# Altium integrated library TI Power Management Hot Swap.IntLib: 76 symbols (part 1 of 5)
Pins are listed as number, name and electrical type; pins without a type are passive.

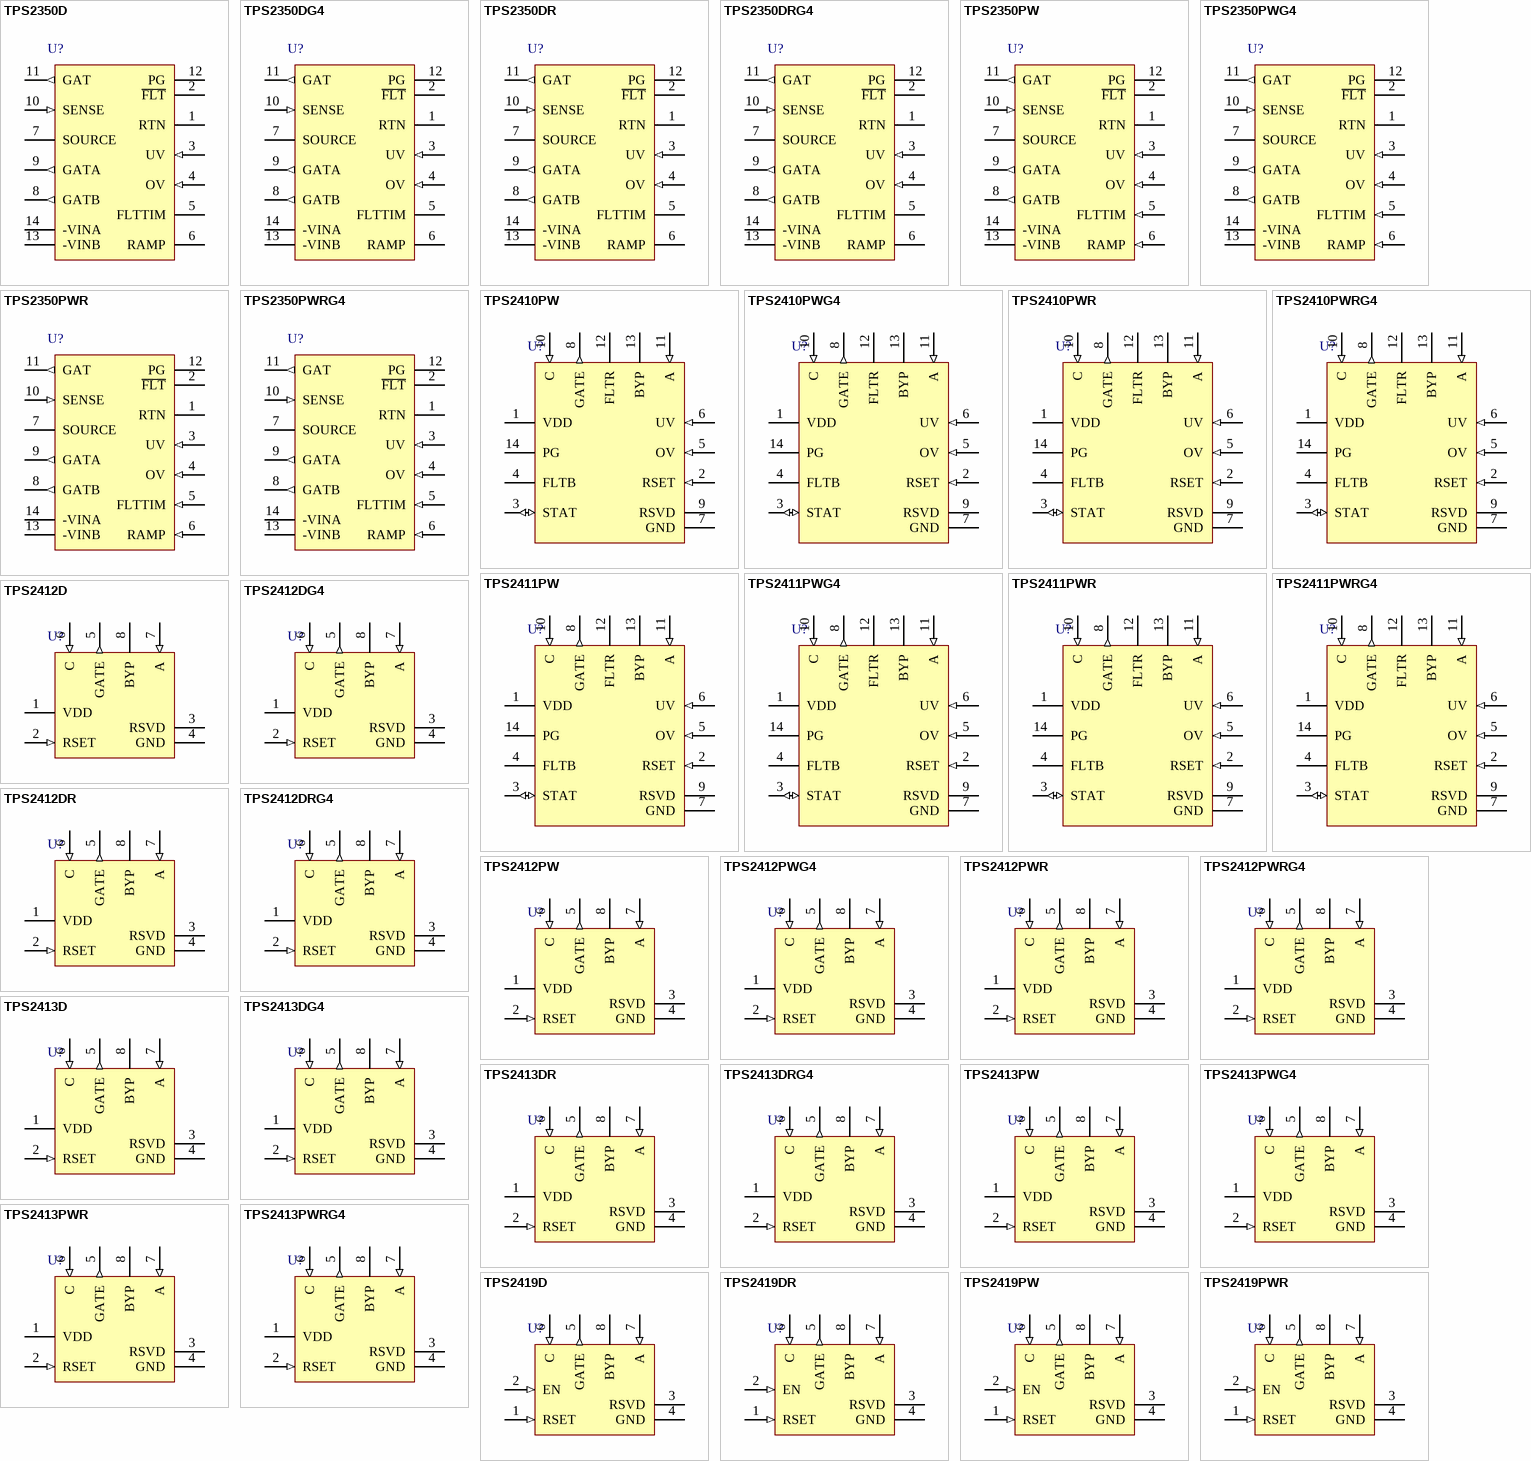
[diagram p0: symbols TPS2350D to TPS2419PWR]

## TPS2350D
designator U?
Hot Swap Power Manager for Redundant -48 V Supply, -80 to -12 V, -40 to 85 degC, 14-pin SOIC (D), Green (RoHS & no Sb/Br); Manufacturer: Texas Instruments; PartNumber: TPS2350D; No. of Outputs: 1; DatasheetVersion: SLUS574C; PackageVersion: revM, Jun-2011; PackageReference: D14; PackageDescription: 14-Pin Plastic Small Outline Integrated Circuit, 8.7 x 3.9 mm, Pitch 1.27 mm Pitch; Supplier 1: Digi-Key; Supplier Part Number 1: 296-16959-5-ND; Supplier 2: Newark; Supplier Part Number 2: 01J0966; Supplier 3: Mouser; Supplier Part Number 3: 595-TPS2350D; Eco-Plan: Green (RoHS & no Sb/Br); Vin(Max)(V): -12; Vin(Min)(V): -80; Mounting Technology: Surface Mount; Code_JEDEC: MS-012AB; ComponentLink1Description: Datasheet; ComponentLink1URL: http://www.ti.com/general/docs/lit/getliterature.tsp?genericPartNumber=TPS2350&fileType=pdf
footprint D14_N (SOIC, 14-Leads, Body 8.7x3.9mm, Pitch 1.27mm, IPC Medium Density)
footprint D14_L (SOIC, 14-Leads, Body 8.7x3.9mm, Pitch 1.27mm, IPC High Density)
footprint D14_M (SOIC, 14-Leads, Body 8.7x3.9mm, Pitch 1.27mm, IPC Low Density)
pins: 1 RTN (power) "Supply return (ground).", 2 ~{FLT} (oc) "Open-drain, active-low indication that the part is in fault", 3 UV (in) "Under voltage sense input.", 4 OV (in) "Over voltage sense input.", 5 FLTTIM "Connection for user programming of the fault timeout period", 6 RAMP "Programming input for setting the inrush current slew rate.", 7 SOURCE (power) "Negative current sense input", 8 GATB (out) "Gate drive for external N-channel FET that selects -VINB.", 9 GATA (out) "Gate drive for external N-channel FET that selects -VINA.", 10 SENSE (in) "Positive current sense input.", 11 GAT (out) "Gate drive for external N-channel FET that ramps load current and disconnects in the event of a fault.", 12 PG (oc) "Open-drain, active-high indication that the power FET is fully enhanced.", 13 -VINB (power) "Negative supply input B.", 14 -VINA (power) "Negative supply input A."

## TPS2350DG4
designator U?
Hot Swap Power Manager for Redundant -48 V Supply, -80 to -12 V, -40 to 85 degC, 14-pin SOIC (D), Green (RoHS & no Sb/Br); Manufacturer: Texas Instruments; PartNumber: TPS2350DG4; No. of Outputs: 1; DatasheetVersion: SLUS574C; PackageVersion: revM, Jun-2011; PackageReference: D14; PackageDescription: 14-Pin Plastic Small Outline Integrated Circuit, 8.7 x 3.9 mm, Pitch 1.27 mm Pitch; Supplier 1: Digi-Key; Supplier Part Number 1: TPS2350DG4-ND; Supplier 2: Newark; Supplier Part Number 2: 61K1880; Supplier 3: Mouser; Supplier Part Number 3: 595-TPS2350DG4; Eco-Plan: Green (RoHS & no Sb/Br); Vin(Max)(V): -12; Vin(Min)(V): -80; Mounting Technology: Surface Mount; Code_JEDEC: MS-012AB; ComponentLink1Description: Datasheet; ComponentLink1URL: http://www.ti.com/general/docs/lit/getliterature.tsp?genericPartNumber=TPS2350&fileType=pdf
footprint D14_N (SOIC, 14-Leads, Body 8.7x3.9mm, Pitch 1.27mm, IPC Medium Density)
footprint D14_L (SOIC, 14-Leads, Body 8.7x3.9mm, Pitch 1.27mm, IPC High Density)
footprint D14_M (SOIC, 14-Leads, Body 8.7x3.9mm, Pitch 1.27mm, IPC Low Density)
pins: 1 RTN (power) "Supply return (ground).", 2 ~{FLT} (oc) "Open-drain, active-low indication that the part is in fault", 3 UV (in) "Under voltage sense input.", 4 OV (in) "Over voltage sense input.", 5 FLTTIM "Connection for user programming of the fault timeout period", 6 RAMP "Programming input for setting the inrush current slew rate.", 7 SOURCE (power) "Negative current sense input", 8 GATB (out) "Gate drive for external N-channel FET that selects -VINB.", 9 GATA (out) "Gate drive for external N-channel FET that selects -VINA.", 10 SENSE (in) "Positive current sense input.", 11 GAT (out) "Gate drive for external N-channel FET that ramps load current and disconnects in the event of a fault.", 12 PG (oc) "Open-drain, active-high indication that the power FET is fully enhanced.", 13 -VINB (power) "Negative supply input B.", 14 -VINA (power) "Negative supply input A."

## TPS2350DR
designator U?
Hot Swap Power Manager for Redundant -48 V Supply, -80 to -12 V, -40 to 85 degC, 14-pin SOIC (D), Green (RoHS & no Sb/Br); Manufacturer: Texas Instruments; PartNumber: TPS2350DR; No. of Outputs: 1; DatasheetVersion: SLUS574C; PackageVersion: revM, Jun-2011; PackageReference: D14; PackageDescription: 14-Pin Plastic Small Outline Integrated Circuit, 8.7 x 3.9 mm, Pitch 1.27 mm Pitch; Supplier 1: Digi-Key; Supplier Part Number 1: TPS2350DR-ND; Supplier 2: Newark; Supplier Part Number 2: 01J0967; Supplier 3: Mouser; Supplier Part Number 3: 595-TPS2350DR; Eco-Plan: Green (RoHS & no Sb/Br); Vin(Max)(V): -12; Vin(Min)(V): -80; Mounting Technology: Surface Mount; Code_JEDEC: MS-012AB; ComponentLink1Description: Datasheet; ComponentLink1URL: http://www.ti.com/general/docs/lit/getliterature.tsp?genericPartNumber=TPS2350&fileType=pdf
footprint D14_N (SOIC, 14-Leads, Body 8.7x3.9mm, Pitch 1.27mm, IPC Medium Density)
footprint D14_L (SOIC, 14-Leads, Body 8.7x3.9mm, Pitch 1.27mm, IPC High Density)
footprint D14_M (SOIC, 14-Leads, Body 8.7x3.9mm, Pitch 1.27mm, IPC Low Density)
pins: 1 RTN (power) "Supply return (ground).", 2 ~{FLT} (oc) "Open-drain, active-low indication that the part is in fault", 3 UV (in) "Under voltage sense input.", 4 OV (in) "Over voltage sense input.", 5 FLTTIM "Connection for user programming of the fault timeout period", 6 RAMP "Programming input for setting the inrush current slew rate.", 7 SOURCE (power) "Negative current sense input", 8 GATB (out) "Gate drive for external N-channel FET that selects -VINB.", 9 GATA (out) "Gate drive for external N-channel FET that selects -VINA.", 10 SENSE (in) "Positive current sense input.", 11 GAT (out) "Gate drive for external N-channel FET that ramps load current and disconnects in the event of a fault.", 12 PG (oc) "Open-drain, active-high indication that the power FET is fully enhanced.", 13 -VINB (power) "Negative supply input B.", 14 -VINA (power) "Negative supply input A."

## TPS2350DRG4
designator U?
Hot Swap Power Manager for Redundant -48 V Supply, -80 to -12 V, -40 to 85 degC, 14-pin SOIC (D), Green (RoHS & no Sb/Br); Manufacturer: Texas Instruments; PartNumber: TPS2350DRG4; No. of Outputs: 1; DatasheetVersion: SLUS574C; PackageVersion: revM, Jun-2011; PackageReference: D14; PackageDescription: 14-Pin Plastic Small Outline Integrated Circuit, 8.7 x 3.9 mm, Pitch 1.27 mm Pitch; Supplier 1: Digi-Key; Supplier Part Number 1: TPS2350DRG4-ND; Supplier 2: Newark; Supplier Part Number 2: 54K1586; Supplier 3: Mouser; Supplier Part Number 3: 595-TPS2350DRG4; Eco-Plan: Green (RoHS & no Sb/Br); Vin(Max)(V): -12; Vin(Min)(V): -80; Mounting Technology: Surface Mount; Code_JEDEC: MS-012AB; ComponentLink1Description: Datasheet; ComponentLink1URL: http://www.ti.com/general/docs/lit/getliterature.tsp?genericPartNumber=TPS2350&fileType=pdf
footprint D14_N (SOIC, 14-Leads, Body 8.7x3.9mm, Pitch 1.27mm, IPC Medium Density)
footprint D14_L (SOIC, 14-Leads, Body 8.7x3.9mm, Pitch 1.27mm, IPC High Density)
footprint D14_M (SOIC, 14-Leads, Body 8.7x3.9mm, Pitch 1.27mm, IPC Low Density)
pins: 1 RTN (power) "Supply return (ground).", 2 ~{FLT} (oc) "Open-drain, active-low indication that the part is in fault", 3 UV (in) "Under voltage sense input.", 4 OV (in) "Over voltage sense input.", 5 FLTTIM "Connection for user programming of the fault timeout period", 6 RAMP "Programming input for setting the inrush current slew rate.", 7 SOURCE (power) "Negative current sense input", 8 GATB (out) "Gate drive for external N-channel FET that selects -VINB.", 9 GATA (out) "Gate drive for external N-channel FET that selects -VINA.", 10 SENSE (in) "Positive current sense input.", 11 GAT (out) "Gate drive for external N-channel FET that ramps load current and disconnects in the event of a fault.", 12 PG (oc) "Open-drain, active-high indication that the power FET is fully enhanced.", 13 -VINB (power) "Negative supply input B.", 14 -VINA (power) "Negative supply input A."

## TPS2350PW
designator U?
Hot Swap Power Manager for Redundant -48 V Supply, -80 to -12 V, -40 to 85 degC, 14-pin TSSOP (PW), Green (RoHS & no Sb/Br); Manufacturer: Texas Instruments; PartNumber: TPS2350PW; No. of Outputs: 1; DatasheetVersion: SLUS574C; PackageVersion: revG, Feb-2011; PackageReference: PW14; PackageDescription: 14-Pin Thin Small Outline Package 0.65 mm Pitch; Supplier 1: Digi-Key; Supplier Part Number 1: 296-18941-5-ND; Supplier 2: Newark; Supplier Part Number 2: 82H5872; Supplier 3: Mouser; Supplier Part Number 3: 595-TPS2350PW; Eco-Plan: Green (RoHS & no Sb/Br); Vin(Max)(V): -12; Vin(Min)(V): -80; Mounting Technology: Surface Mount; Code_JEDEC: MO-153; ComponentLink1Description: Datasheet; ComponentLink1URL: http://www.ti.com/general/docs/lit/getliterature.tsp?genericPartNumber=TPS2350&fileType=pdf
footprint PW14_N (TSOP, 14-Leads, Body 5x4.4mm, Pitch 0.65mm, IPC Medium Density)
footprint PW14_L (TSOP, 14-Leads, Body 5x4.4mm, Pitch 0.65mm, IPC High Density)
footprint PW14_M (TSOP, 14-Leads, Body 5x4.4mm, Pitch 0.65mm, IPC Low Density)
pins: 1 RTN (power) "Supply return (ground).", 2 ~{FLT} (oc) "Open-drain, active-low indication that the part is in fault.", 3 UV (in) "Under voltage sense input.", 4 OV (in) "Over voltage sense input.", 5 FLTTIM (in) "Connection for user programming of the fault timeout period.", 6 RAMP (in) "Programming input for setting the inrush current slew rate.", 7 SOURCE (power) "Negative current sense input.", 8 GATB (out) "Gate drive for external N-channel FET that selects -VINB.", 9 GATA (out) "Gate drive for external N-channel FET that selects -VINA.", 10 SENSE (in) "Positive current sense input.", 11 GAT (out) "Gate drive for external N-channel FET that ramps load current and disconnects in the event of a fault.", 12 PG (oc) "Open-drain, active-high indication that the power FET is fully enhanced.", 13 -VINB (power) "Negative supply input B.", 14 -VINA (power) "Negative supply input A."

## TPS2350PWG4
designator U?
Hot Swap Power Manager for Redundant -48 V Supply, -80 to -12 V, -40 to 85 degC, 14-pin TSSOP (PW), Green (RoHS & no Sb/Br); Manufacturer: Texas Instruments; PartNumber: TPS2350PWG4; No. of Outputs: 1; DatasheetVersion: SLUS574C; PackageVersion: revG, Feb-2011; PackageReference: PW14; PackageDescription: 14-Pin Thin Small Outline Package 0.65 mm Pitch; Supplier 1: Digi-Key; Supplier Part Number 1: TPS2350PWG4-ND; Supplier 2: Newark; Supplier Part Number 2: 58K6908; Supplier 3: Mouser; Supplier Part Number 3: 595-TPS2350PWG4; Eco-Plan: Green (RoHS & no Sb/Br); Vin(Max)(V): -12; Vin(Min)(V): -80; Mounting Technology: Surface Mount; Code_JEDEC: MO-153; ComponentLink1Description: Datasheet; ComponentLink1URL: http://www.ti.com/general/docs/lit/getliterature.tsp?genericPartNumber=TPS2350&fileType=pdf
footprint PW14_N (TSOP, 14-Leads, Body 5x4.4mm, Pitch 0.65mm, IPC Medium Density)
footprint PW14_L (TSOP, 14-Leads, Body 5x4.4mm, Pitch 0.65mm, IPC High Density)
footprint PW14_M (TSOP, 14-Leads, Body 5x4.4mm, Pitch 0.65mm, IPC Low Density)
pins: 1 RTN (power) "Supply return (ground).", 2 ~{FLT} (oc) "Open-drain, active-low indication that the part is in fault.", 3 UV (in) "Under voltage sense input.", 4 OV (in) "Over voltage sense input.", 5 FLTTIM (in) "Connection for user programming of the fault timeout period.", 6 RAMP (in) "Programming input for setting the inrush current slew rate.", 7 SOURCE (power) "Negative current sense input.", 8 GATB (out) "Gate drive for external N-channel FET that selects -VINB.", 9 GATA (out) "Gate drive for external N-channel FET that selects -VINA.", 10 SENSE (in) "Positive current sense input.", 11 GAT (out) "Gate drive for external N-channel FET that ramps load current and disconnects in the event of a fault.", 12 PG (oc) "Open-drain, active-high indication that the power FET is fully enhanced.", 13 -VINB (power) "Negative supply input B.", 14 -VINA (power) "Negative supply input A."

## TPS2350PWR
designator U?
Hot Swap Power Manager for Redundant -48 V Supply, -80 to -12 V, -40 to 85 degC, 14-pin TSSOP (PW), Green (RoHS & no Sb/Br); Manufacturer: Texas Instruments; PartNumber: TPS2350PWR; No. of Outputs: 1; DatasheetVersion: SLUS574C; PackageVersion: revG, Feb-2011; PackageReference: PW14; PackageDescription: 14-Pin Thin Small Outline Package 0.65 mm Pitch; Supplier 1: Digi-Key; Supplier Part Number 1: TPS2350PWR-ND; Supplier 2: Newark; Supplier Part Number 2: 82H5873; Supplier 3: Mouser; Supplier Part Number 3: 595-TPS2350PWR; Eco-Plan: Green (RoHS & no Sb/Br); Vin(Max)(V): -12; Vin(Min)(V): -80; Mounting Technology: Surface Mount; Code_JEDEC: MO-153; ComponentLink1Description: Datasheet; ComponentLink1URL: http://www.ti.com/general/docs/lit/getliterature.tsp?genericPartNumber=TPS2350&fileType=pdf
footprint PW14_N (TSOP, 14-Leads, Body 5x4.4mm, Pitch 0.65mm, IPC Medium Density)
footprint PW14_L (TSOP, 14-Leads, Body 5x4.4mm, Pitch 0.65mm, IPC High Density)
footprint PW14_M (TSOP, 14-Leads, Body 5x4.4mm, Pitch 0.65mm, IPC Low Density)
pins: 1 RTN (power) "Supply return (ground).", 2 ~{FLT} (oc) "Open-drain, active-low indication that the part is in fault.", 3 UV (in) "Under voltage sense input.", 4 OV (in) "Over voltage sense input.", 5 FLTTIM (in) "Connection for user programming of the fault timeout period.", 6 RAMP (in) "Programming input for setting the inrush current slew rate.", 7 SOURCE (power) "Negative current sense input.", 8 GATB (out) "Gate drive for external N-channel FET that selects -VINB.", 9 GATA (out) "Gate drive for external N-channel FET that selects -VINA.", 10 SENSE (in) "Positive current sense input.", 11 GAT (out) "Gate drive for external N-channel FET that ramps load current and disconnects in the event of a fault.", 12 PG (oc) "Open-drain, active-high indication that the power FET is fully enhanced.", 13 -VINB (power) "Negative supply input B.", 14 -VINA (power) "Negative supply input A."

## TPS2350PWRG4
designator U?
Hot Swap Power Manager for Redundant -48 V Supply, -80 to -12 V, -40 to 85 degC, 14-pin TSSOP (PW), Green (RoHS & no Sb/Br); Manufacturer: Texas Instruments; PartNumber: TPS2350PWRG4; No. of Outputs: 1; DatasheetVersion: SLUS574C; PackageVersion: revG, Feb-2011; PackageReference: PW14; PackageDescription: 14-Pin Thin Small Outline Package 0.65 mm Pitch; Supplier 1: Digi-Key; Supplier Part Number 1: TPS2350PWRG4-ND; Supplier 2: Newark; Supplier Part Number 2: 70K5713; Supplier 3: Mouser; Supplier Part Number 3: 595-TPS2350PWRG4; Eco-Plan: Green (RoHS & no Sb/Br); Vin(Max)(V): -12; Vin(Min)(V): -80; Mounting Technology: Surface Mount; Code_JEDEC: MO-153; ComponentLink1Description: Datasheet; ComponentLink1URL: http://www.ti.com/general/docs/lit/getliterature.tsp?genericPartNumber=TPS2350&fileType=pdf
footprint PW14_N (TSOP, 14-Leads, Body 5x4.4mm, Pitch 0.65mm, IPC Medium Density)
footprint PW14_L (TSOP, 14-Leads, Body 5x4.4mm, Pitch 0.65mm, IPC High Density)
footprint PW14_M (TSOP, 14-Leads, Body 5x4.4mm, Pitch 0.65mm, IPC Low Density)
pins: 1 RTN (power) "Supply return (ground).", 2 ~{FLT} (oc) "Open-drain, active-low indication that the part is in fault.", 3 UV (in) "Under voltage sense input.", 4 OV (in) "Over voltage sense input.", 5 FLTTIM (in) "Connection for user programming of the fault timeout period.", 6 RAMP (in) "Programming input for setting the inrush current slew rate.", 7 SOURCE (power) "Negative current sense input.", 8 GATB (out) "Gate drive for external N-channel FET that selects -VINB.", 9 GATA (out) "Gate drive for external N-channel FET that selects -VINA.", 10 SENSE (in) "Positive current sense input.", 11 GAT (out) "Gate drive for external N-channel FET that ramps load current and disconnects in the event of a fault.", 12 PG (oc) "Open-drain, active-high indication that the power FET is fully enhanced.", 13 -VINB (power) "Negative supply input B.", 14 -VINA (power) "Negative supply input A."

## TPS2410PW
designator U?
N+1 and OR-ing Power Rail Controller, 0.8 to 16.5 V, -40 to 85 degC, 14-pin TSSOP (PW), Green (RoHS & no Sb/Br); Manufacturer: Texas Instruments; PartNumber: TPS2410PW; Enable (OV): Yes; Gate Control: linear; No. of Outputs: 1; Vin(Max)(V): 16.5; Vin(Min)(V): 0.8; DatasheetVersion: SLVS727C; PackageVersion: revG, Feb-2011; PackageReference: PW14; PackageDescription: 14-Pin Thin Small Outline Package 0.65 mm Pitch; Supplier 1: Digi-Key; Supplier Part Number 1: 296-21612-5-ND; Supplier 2: Farnell; Supplier Part Number 2: 1564949; Supplier 3: Newark; Supplier Part Number 3: 31M0444; Supplier 4: Mouser; Supplier Part Number 4: 595-TPS2410PW; Eco-Plan: Green (RoHS & no Sb/Br); Fault and Status: Yes; Input Filter: Yes; Under/Over Voltage Reporting: Yes; Mounting Technology: Surface Mount; Code_JEDEC: MO-153; ComponentLink1Description: Datasheet; ComponentLink1URL: http://www.ti.com/general/docs/lit/getliterature.tsp?genericPartNumber=TPS2410&fileType=pdf
footprint PW14_N (TSOP, 14-Leads, Body 5x4.4mm, Pitch 0.65mm, IPC Medium Density)
footprint PW14_L (TSOP, 14-Leads, Body 5x4.4mm, Pitch 0.65mm, IPC High Density)
footprint PW14_M (TSOP, 14-Leads, Body 5x4.4mm, Pitch 0.65mm, IPC Low Density)
pins: 1 VDD (power) "Input power for the gate drive charge pump and internal controls. VDD must be connected to a supply voltage >= 3 V.", 2 RSET (in) "Connect a resistor to ground to program the turn-off threshold. Leaving RSET open results in a slightly positive V(A-C) turn-off threshold.", 3 STAT (io) "STAT is a multifunction pin. A high output indicates that the MOSFET gate is being driven high. Overdriving STAT low while GATE is high shifts the fast-turnoff threshold negative. STAT has a weak pull-up to VDD.", 4 FLTB (oc) "Open drain fault output. Fault is active (low) for any of the following conditions: 1. Insufficient VDD 2. GATE should be high but is not. 3. The MOSFET should be ON but the forward voltage exceeds 0.4 V.", 5 OV (in) "OV is a voltage monitor that contributes to the PG output, and also causes the MOSFET to turn off if it is above the 0.6-V threshold. OV is programmable via an external resistor divider. An OV voltage above 0.6 V indicates a (See Datasheet)", 6 UV (in) "UV is a voltage monitor that contributes to the PG output. The UV input has a 0.6 V threshold and is programmable via an external resistor divider. A UV voltage above 0.6V indicates a bus voltage that is above its minimum (See Datasheet)", 7 GND (power) "Device ground.", 8 GATE (out) "Connect to the gate of the external MOSFET. Controls the MOSFET to emulate a low forward-voltage diode.", 9 RSVD (power) "This pin must be connected to GND.", 10 C (in) "Voltage sense input that connects to the simulated diode cathode. Connect to the MOSFET drain in the typical configuration.", 11 A (in) "Voltage sense input that connects to the simulated diode anode. A also serves as the reference for the charge-pump bias supply on BYP. Connect to the MOSFET source in the typical configuration.", 12 FLTR "A capacitor connected from FLTR to A filters the input to the fast comparator. Filtering allows the TPS2410 to ignore spurious transients on the A and C inputs. This pin may be left open to achieve the fastest response time.", 13 BYP (power) "Connect a storage capacitor from BYP to A to filter the gate drive supply voltage.", 14 PG (oc) "An open-drain Power Good indicator. PG is open if the UV input is above its threshold, the OV is below its threshold, and the internal UVLO is satisfied."

## TPS2410PWG4
designator U?
N+1 and OR-ing Power Rail Controller, 0.8 to 16.5 V, -40 to 85 degC, 14-pin TSSOP (PW), Green (RoHS & no Sb/Br); Manufacturer: Texas Instruments; PartNumber: TPS2410PWG4; Enable (OV): Yes; Gate Control: linear; No. of Outputs: 1; Vin(Max)(V): 16.5; Vin(Min)(V): 0.8; DatasheetVersion: SLVS727C; PackageVersion: revG, Feb-2011; PackageReference: PW14; PackageDescription: 14-Pin Thin Small Outline Package 0.65 mm Pitch; Supplier 1: Digi-Key; Supplier Part Number 1: TPS2410PWG4-ND; Supplier 2: Newark; Supplier Part Number 2: 41M5862; Supplier 3: Mouser; Supplier Part Number 3: 595-TPS2410PWG4; Eco-Plan: Green (RoHS & no Sb/Br); Fault and Status: Yes; Input Filter: Yes; Under/Over Voltage Reporting: Yes; Mounting Technology: Surface Mount; Code_JEDEC: MO-153; ComponentLink1Description: Datasheet; ComponentLink1URL: http://www.ti.com/general/docs/lit/getliterature.tsp?genericPartNumber=TPS2410&fileType=pdf
footprint PW14_N (TSOP, 14-Leads, Body 5x4.4mm, Pitch 0.65mm, IPC Medium Density)
footprint PW14_L (TSOP, 14-Leads, Body 5x4.4mm, Pitch 0.65mm, IPC High Density)
footprint PW14_M (TSOP, 14-Leads, Body 5x4.4mm, Pitch 0.65mm, IPC Low Density)
pins: 1 VDD (power) "Input power for the gate drive charge pump and internal controls. VDD must be connected to a supply voltage >= 3 V.", 2 RSET (in) "Connect a resistor to ground to program the turn-off threshold. Leaving RSET open results in a slightly positive V(A-C) turn-off threshold.", 3 STAT (io) "STAT is a multifunction pin. A high output indicates that the MOSFET gate is being driven high. Overdriving STAT low while GATE is high shifts the fast-turnoff threshold negative. STAT has a weak pull-up to VDD.", 4 FLTB (oc) "Open drain fault output. Fault is active (low) for any of the following conditions: 1. Insufficient VDD 2. GATE should be high but is not. 3. The MOSFET should be ON but the forward voltage exceeds 0.4 V.", 5 OV (in) "OV is a voltage monitor that contributes to the PG output, and also causes the MOSFET to turn off if it is above the 0.6-V threshold. OV is programmable via an external resistor divider. An OV voltage above 0.6 V indicates a (See Datasheet)", 6 UV (in) "UV is a voltage monitor that contributes to the PG output. The UV input has a 0.6 V threshold and is programmable via an external resistor divider. A UV voltage above 0.6V indicates a bus voltage that is above its minimum (See Datasheet)", 7 GND (power) "Device ground.", 8 GATE (out) "Connect to the gate of the external MOSFET. Controls the MOSFET to emulate a low forward-voltage diode.", 9 RSVD (power) "This pin must be connected to GND.", 10 C (in) "Voltage sense input that connects to the simulated diode cathode. Connect to the MOSFET drain in the typical configuration.", 11 A (in) "Voltage sense input that connects to the simulated diode anode. A also serves as the reference for the charge-pump bias supply on BYP. Connect to the MOSFET source in the typical configuration.", 12 FLTR "A capacitor connected from FLTR to A filters the input to the fast comparator. Filtering allows the TPS2410 to ignore spurious transients on the A and C inputs. This pin may be left open to achieve the fastest response time.", 13 BYP (power) "Connect a storage capacitor from BYP to A to filter the gate drive supply voltage.", 14 PG (oc) "An open-drain Power Good indicator. PG is open if the UV input is above its threshold, the OV is below its threshold, and the internal UVLO is satisfied."

## TPS2410PWR
designator U?
N+1 and OR-ing Power Rail Controller, 0.8 to 16.5 V, -40 to 85 degC, 14-pin TSSOP (PW), Green (RoHS & no Sb/Br); Manufacturer: Texas Instruments; PartNumber: TPS2410PWR; Enable (OV): Yes; Gate Control: linear; No. of Outputs: 1; Vin(Max)(V): 16.5; Vin(Min)(V): 0.8; DatasheetVersion: SLVS727C; PackageVersion: revG, Feb-2011; PackageReference: PW14; PackageDescription: 14-Pin Thin Small Outline Package 0.65 mm Pitch; Supplier 1: Digi-Key; Supplier Part Number 1: TPS2410PWR-ND; Supplier 2: Newark; Supplier Part Number 2: 31M0445; Supplier 3: Mouser; Supplier Part Number 3: 595-TPS2410PWR; Eco-Plan: Green (RoHS & no Sb/Br); Fault and Status: Yes; Input Filter: Yes; Under/Over Voltage Reporting: Yes; Mounting Technology: Surface Mount; Code_JEDEC: MO-153; ComponentLink1Description: Datasheet; ComponentLink1URL: http://www.ti.com/general/docs/lit/getliterature.tsp?genericPartNumber=TPS2410&fileType=pdf
footprint PW14_N (TSOP, 14-Leads, Body 5x4.4mm, Pitch 0.65mm, IPC Medium Density)
footprint PW14_L (TSOP, 14-Leads, Body 5x4.4mm, Pitch 0.65mm, IPC High Density)
footprint PW14_M (TSOP, 14-Leads, Body 5x4.4mm, Pitch 0.65mm, IPC Low Density)
pins: 1 VDD (power) "Input power for the gate drive charge pump and internal controls. VDD must be connected to a supply voltage >= 3 V.", 2 RSET (in) "Connect a resistor to ground to program the turn-off threshold. Leaving RSET open results in a slightly positive V(A-C) turn-off threshold.", 3 STAT (io) "STAT is a multifunction pin. A high output indicates that the MOSFET gate is being driven high. Overdriving STAT low while GATE is high shifts the fast-turnoff threshold negative. STAT has a weak pull-up to VDD.", 4 FLTB (oc) "Open drain fault output. Fault is active (low) for any of the following conditions: 1. Insufficient VDD 2. GATE should be high but is not. 3. The MOSFET should be ON but the forward voltage exceeds 0.4 V.", 5 OV (in) "OV is a voltage monitor that contributes to the PG output, and also causes the MOSFET to turn off if it is above the 0.6-V threshold. OV is programmable via an external resistor divider. An OV voltage above 0.6 V indicates a (See Datasheet)", 6 UV (in) "UV is a voltage monitor that contributes to the PG output. The UV input has a 0.6 V threshold and is programmable via an external resistor divider. A UV voltage above 0.6V indicates a bus voltage that is above its minimum (See Datasheet)", 7 GND (power) "Device ground.", 8 GATE (out) "Connect to the gate of the external MOSFET. Controls the MOSFET to emulate a low forward-voltage diode.", 9 RSVD (power) "This pin must be connected to GND.", 10 C (in) "Voltage sense input that connects to the simulated diode cathode. Connect to the MOSFET drain in the typical configuration.", 11 A (in) "Voltage sense input that connects to the simulated diode anode. A also serves as the reference for the charge-pump bias supply on BYP. Connect to the MOSFET source in the typical configuration.", 12 FLTR "A capacitor connected from FLTR to A filters the input to the fast comparator. Filtering allows the TPS2410 to ignore spurious transients on the A and C inputs. This pin may be left open to achieve the fastest response time.", 13 BYP (power) "Connect a storage capacitor from BYP to A to filter the gate drive supply voltage.", 14 PG (oc) "An open-drain Power Good indicator. PG is open if the UV input is above its threshold, the OV is below its threshold, and the internal UVLO is satisfied."

## TPS2410PWRG4
designator U?
N+1 and OR-ing Power Rail Controller, 0.8 to 16.5 V, -40 to 85 degC, 14-pin TSSOP (PW), Green (RoHS & no Sb/Br); Manufacturer: Texas Instruments; PartNumber: TPS2410PWRG4; Enable (OV): Yes; Gate Control: linear; No. of Outputs: 1; Vin(Max)(V): 16.5; Vin(Min)(V): 0.8; DatasheetVersion: SLVS727C; PackageVersion: revG, Feb-2011; PackageReference: PW14; PackageDescription: 14-Pin Thin Small Outline Package 0.65 mm Pitch; Supplier 1: Digi-Key; Supplier Part Number 1: TPS2410PWRG4-ND; Supplier 2: Newark; Supplier Part Number 2: 34M0147; Supplier 3: Mouser; Supplier Part Number 3: 595-TPS2410PWRG4; Eco-Plan: Green (RoHS & no Sb/Br); Fault and Status: Yes; Input Filter: Yes; Under/Over Voltage Reporting: Yes; Mounting Technology: Surface Mount; Code_JEDEC: MO-153; ComponentLink1Description: Datasheet; ComponentLink1URL: http://www.ti.com/general/docs/lit/getliterature.tsp?genericPartNumber=TPS2410&fileType=pdf
footprint PW14_N (TSOP, 14-Leads, Body 5x4.4mm, Pitch 0.65mm, IPC Medium Density)
footprint PW14_L (TSOP, 14-Leads, Body 5x4.4mm, Pitch 0.65mm, IPC High Density)
footprint PW14_M (TSOP, 14-Leads, Body 5x4.4mm, Pitch 0.65mm, IPC Low Density)
pins: 1 VDD (power) "Input power for the gate drive charge pump and internal controls. VDD must be connected to a supply voltage >= 3 V.", 2 RSET (in) "Connect a resistor to ground to program the turn-off threshold. Leaving RSET open results in a slightly positive V(A-C) turn-off threshold.", 3 STAT (io) "STAT is a multifunction pin. A high output indicates that the MOSFET gate is being driven high. Overdriving STAT low while GATE is high shifts the fast-turnoff threshold negative. STAT has a weak pull-up to VDD.", 4 FLTB (oc) "Open drain fault output. Fault is active (low) for any of the following conditions: 1. Insufficient VDD 2. GATE should be high but is not. 3. The MOSFET should be ON but the forward voltage exceeds 0.4 V.", 5 OV (in) "OV is a voltage monitor that contributes to the PG output, and also causes the MOSFET to turn off if it is above the 0.6-V threshold. OV is programmable via an external resistor divider. An OV voltage above 0.6 V indicates a (See Datasheet)", 6 UV (in) "UV is a voltage monitor that contributes to the PG output. The UV input has a 0.6 V threshold and is programmable via an external resistor divider. A UV voltage above 0.6V indicates a bus voltage that is above its minimum (See Datasheet)", 7 GND (power) "Device ground.", 8 GATE (out) "Connect to the gate of the external MOSFET. Controls the MOSFET to emulate a low forward-voltage diode.", 9 RSVD (power) "This pin must be connected to GND.", 10 C (in) "Voltage sense input that connects to the simulated diode cathode. Connect to the MOSFET drain in the typical configuration.", 11 A (in) "Voltage sense input that connects to the simulated diode anode. A also serves as the reference for the charge-pump bias supply on BYP. Connect to the MOSFET source in the typical configuration.", 12 FLTR "A capacitor connected from FLTR to A filters the input to the fast comparator. Filtering allows the TPS2410 to ignore spurious transients on the A and C inputs. This pin may be left open to achieve the fastest response time.", 13 BYP (power) "Connect a storage capacitor from BYP to A to filter the gate drive supply voltage.", 14 PG (oc) "An open-drain Power Good indicator. PG is open if the UV input is above its threshold, the OV is below its threshold, and the internal UVLO is satisfied."

## TPS2411PW
designator U?
N+1 and OR-ing Power Rail Controller, 0.8 to 16.5 V, -40 to 85 degC, 14-pin TSSOP (PW), Green (RoHS & no Sb/Br); Manufacturer: Texas Instruments; PartNumber: TPS2411PW; Enable (OV): Yes; Gate Control: on/off; No. of Outputs: 1; Vin(Max)(V): 16.5; Vin(Min)(V): 0.8; DatasheetVersion: SLVS727C; PackageVersion: revG, Feb-2011; PackageReference: PW14; PackageDescription: 14-Pin Thin Small Outline Package 0.65 mm Pitch; Supplier 1: Digi-Key; Supplier Part Number 1: 296-21613-5-ND; Supplier 2: Newark; Supplier Part Number 2: 31M0446; Supplier 3: Mouser; Supplier Part Number 3: 595-TPS2411PW; Eco-Plan: Green (RoHS & no Sb/Br); Fault and Status: Yes; Input Filter: Yes; Under/Over Voltage Reporting: Yes; Mounting Technology: Surface Mount; Code_JEDEC: MO-153; ComponentLink1Description: Datasheet; ComponentLink1URL: http://www.ti.com/general/docs/lit/getliterature.tsp?genericPartNumber=TPS2411&fileType=pdf
footprint PW14_N (TSOP, 14-Leads, Body 5x4.4mm, Pitch 0.65mm, IPC Medium Density)
footprint PW14_L (TSOP, 14-Leads, Body 5x4.4mm, Pitch 0.65mm, IPC High Density)
footprint PW14_M (TSOP, 14-Leads, Body 5x4.4mm, Pitch 0.65mm, IPC Low Density)
pins: 1 VDD (power) "Input power for the gate drive charge pump and internal controls. VDD must be connected to a supply voltage >= 3 V.", 2 RSET (in) "Connect a resistor to ground to program the turn-off threshold. Leaving RSET open results in a slightly positive V(A-C) turn-off threshold.", 3 STAT (io) "STAT is a multifunction pin. A high output indicates that the MOSFET gate is being driven high. Overdriving STAT low while GATE is high shifts the fast-turnoff threshold negative. STAT has a weak pull-up to VDD.", 4 FLTB (oc) "Open drain fault output. Fault is active (low) for any of the following conditions: 1. Insufficient VDD 2. GATE should be high but is not. 3. The MOSFET should be ON but the forward voltage exceeds 0.4 V.", 5 OV (in) "OV is a voltage monitor that contributes to the PG output, and also causes the MOSFET to turn off if it is above the 0.6-V threshold. OV is programmable via an external resistor divider. An OV voltage above 0.6 V indicates a (See Datasheet)", 6 UV (in) "UV is a voltage monitor that contributes to the PG output. The UV input has a 0.6 V threshold and is programmable via an external resistor divider. A UV voltage above 0.6V indicates a bus voltage that is above its minimum (See Datasheet)", 7 GND (power) "Device ground.", 8 GATE (out) "Connect to the gate of the external MOSFET. Controls the MOSFET to emulate a low forward-voltage diode.", 9 RSVD (power) "This pin must be connected to GND.", 10 C (in) "Voltage sense input that connects to the simulated diode cathode. Connect to the MOSFET drain in the typical configuration.", 11 A (in) "Voltage sense input that connects to the simulated diode anode. A also serves as the reference for the charge-pump bias supply on BYP. Connect to the MOSFET source in the typical configuration.", 12 FLTR "A capacitor connected from FLTR to A filters the input to the fast comparator. Filtering allows the TPS2410 to FLTR 12 I ignore spurious transients on the A and C inputs. This pin may be left open to achieve the fastest (See Datasheet)", 13 BYP (power) "Connect a storage capacitor from BYP to A to filter the gate drive supply voltage.", 14 PG (oc) "An open-drain Power Good indicator. PG is open if the UV input is above its threshold, the OV is below its threshold, and the internal UVLO is satisfied."

## TPS2411PWG4
designator U?
N+1 and OR-ing Power Rail Controller, 0.8 to 16.5 V, -40 to 85 degC, 14-pin TSSOP (PW), Green (RoHS & no Sb/Br); Manufacturer: Texas Instruments; PartNumber: TPS2411PWG4; Enable (OV): Yes; Gate Control: on/off; No. of Outputs: 1; Vin(Max)(V): 16.5; Vin(Min)(V): 0.8; DatasheetVersion: SLVS727C; PackageVersion: revG, Feb-2011; PackageReference: PW14; PackageDescription: 14-Pin Thin Small Outline Package 0.65 mm Pitch; Supplier 1: Digi-Key; Supplier Part Number 1: TPS2411PWG4-ND; Supplier 2: Newark; Supplier Part Number 2: 34M0149; Supplier 3: Mouser; Supplier Part Number 3: 595-TPS2411PWG4; Eco-Plan: Green (RoHS & no Sb/Br); Fault and Status: Yes; Input Filter: Yes; Under/Over Voltage Reporting: Yes; Mounting Technology: Surface Mount; Code_JEDEC: MO-153; ComponentLink1Description: Datasheet; ComponentLink1URL: http://www.ti.com/general/docs/lit/getliterature.tsp?genericPartNumber=TPS2411&fileType=pdf
footprint PW14_N (TSOP, 14-Leads, Body 5x4.4mm, Pitch 0.65mm, IPC Medium Density)
footprint PW14_L (TSOP, 14-Leads, Body 5x4.4mm, Pitch 0.65mm, IPC High Density)
footprint PW14_M (TSOP, 14-Leads, Body 5x4.4mm, Pitch 0.65mm, IPC Low Density)
pins: 1 VDD (power) "Input power for the gate drive charge pump and internal controls. VDD must be connected to a supply voltage >= 3 V.", 2 RSET (in) "Connect a resistor to ground to program the turn-off threshold. Leaving RSET open results in a slightly positive V(A-C) turn-off threshold.", 3 STAT (io) "STAT is a multifunction pin. A high output indicates that the MOSFET gate is being driven high. Overdriving STAT low while GATE is high shifts the fast-turnoff threshold negative. STAT has a weak pull-up to VDD.", 4 FLTB (oc) "Open drain fault output. Fault is active (low) for any of the following conditions: 1. Insufficient VDD 2. GATE should be high but is not. 3. The MOSFET should be ON but the forward voltage exceeds 0.4 V.", 5 OV (in) "OV is a voltage monitor that contributes to the PG output, and also causes the MOSFET to turn off if it is above the 0.6-V threshold. OV is programmable via an external resistor divider. An OV voltage above 0.6 V indicates a (See Datasheet)", 6 UV (in) "UV is a voltage monitor that contributes to the PG output. The UV input has a 0.6 V threshold and is programmable via an external resistor divider. A UV voltage above 0.6V indicates a bus voltage that is above its minimum (See Datasheet)", 7 GND (power) "Device ground.", 8 GATE (out) "Connect to the gate of the external MOSFET. Controls the MOSFET to emulate a low forward-voltage diode.", 9 RSVD (power) "This pin must be connected to GND.", 10 C (in) "Voltage sense input that connects to the simulated diode cathode. Connect to the MOSFET drain in the typical configuration.", 11 A (in) "Voltage sense input that connects to the simulated diode anode. A also serves as the reference for the charge-pump bias supply on BYP. Connect to the MOSFET source in the typical configuration.", 12 FLTR "A capacitor connected from FLTR to A filters the input to the fast comparator. Filtering allows the TPS2410 to FLTR 12 I ignore spurious transients on the A and C inputs. This pin may be left open to achieve the fastest (See Datasheet)", 13 BYP (power) "Connect a storage capacitor from BYP to A to filter the gate drive supply voltage.", 14 PG (oc) "An open-drain Power Good indicator. PG is open if the UV input is above its threshold, the OV is below its threshold, and the internal UVLO is satisfied."

## TPS2411PWR
designator U?
N+1 and OR-ing Power Rail Controller, 0.8 to 16.5 V, -40 to 85 degC, 14-pin TSSOP (PW), Green (RoHS & no Sb/Br); Manufacturer: Texas Instruments; PartNumber: TPS2411PWR; Enable (OV): Yes; Gate Control: on/off; No. of Outputs: 1; Vin(Max)(V): 16.5; Vin(Min)(V): 0.8; DatasheetVersion: SLVS727C; PackageVersion: revG, Feb-2011; PackageReference: PW14; PackageDescription: 14-Pin Thin Small Outline Package 0.65 mm Pitch; Supplier 1: Digi-Key; Supplier Part Number 1: TPS2411PWR-ND; Supplier 2: Newark; Supplier Part Number 2: 31M0447; Supplier 3: Mouser; Supplier Part Number 3: 595-TPS2411PWR; Eco-Plan: Green (RoHS & no Sb/Br); Fault and Status: Yes; Input Filter: Yes; Under/Over Voltage Reporting: Yes; Mounting Technology: Surface Mount; Code_JEDEC: MO-153; ComponentLink1Description: Datasheet; ComponentLink1URL: http://www.ti.com/general/docs/lit/getliterature.tsp?genericPartNumber=TPS2411&fileType=pdf
footprint PW14_N (TSOP, 14-Leads, Body 5x4.4mm, Pitch 0.65mm, IPC Medium Density)
footprint PW14_L (TSOP, 14-Leads, Body 5x4.4mm, Pitch 0.65mm, IPC High Density)
footprint PW14_M (TSOP, 14-Leads, Body 5x4.4mm, Pitch 0.65mm, IPC Low Density)
pins: 1 VDD (power) "Input power for the gate drive charge pump and internal controls. VDD must be connected to a supply voltage >= 3 V.", 2 RSET (in) "Connect a resistor to ground to program the turn-off threshold. Leaving RSET open results in a slightly positive V(A-C) turn-off threshold.", 3 STAT (io) "STAT is a multifunction pin. A high output indicates that the MOSFET gate is being driven high. Overdriving STAT low while GATE is high shifts the fast-turnoff threshold negative. STAT has a weak pull-up to VDD.", 4 FLTB (oc) "Open drain fault output. Fault is active (low) for any of the following conditions: 1. Insufficient VDD 2. GATE should be high but is not. 3. The MOSFET should be ON but the forward voltage exceeds 0.4 V.", 5 OV (in) "OV is a voltage monitor that contributes to the PG output, and also causes the MOSFET to turn off if it is above the 0.6-V threshold. OV is programmable via an external resistor divider. An OV voltage above 0.6 V indicates a (See Datasheet)", 6 UV (in) "UV is a voltage monitor that contributes to the PG output. The UV input has a 0.6 V threshold and is programmable via an external resistor divider. A UV voltage above 0.6V indicates a bus voltage that is above its minimum (See Datasheet)", 7 GND (power) "Device ground.", 8 GATE (out) "Connect to the gate of the external MOSFET. Controls the MOSFET to emulate a low forward-voltage diode.", 9 RSVD (power) "This pin must be connected to GND.", 10 C (in) "Voltage sense input that connects to the simulated diode cathode. Connect to the MOSFET drain in the typical configuration.", 11 A (in) "Voltage sense input that connects to the simulated diode anode. A also serves as the reference for the charge-pump bias supply on BYP. Connect to the MOSFET source in the typical configuration.", 12 FLTR "A capacitor connected from FLTR to A filters the input to the fast comparator. Filtering allows the TPS2410 to FLTR 12 I ignore spurious transients on the A and C inputs. This pin may be left open to achieve the fastest (See Datasheet)", 13 BYP (power) "Connect a storage capacitor from BYP to A to filter the gate drive supply voltage.", 14 PG (oc) "An open-drain Power Good indicator. PG is open if the UV input is above its threshold, the OV is below its threshold, and the internal UVLO is satisfied."

## TPS2411PWRG4
designator U?
N+1 and OR-ing Power Rail Controller, 0.8 to 16.5 V, -40 to 85 degC, 14-pin TSSOP (PW), Green (RoHS & no Sb/Br); Manufacturer: Texas Instruments; PartNumber: TPS2411PWRG4; Enable (OV): Yes; Gate Control: on/off; No. of Outputs: 1; Vin(Max)(V): 16.5; Vin(Min)(V): 0.8; DatasheetVersion: SLVS727C; PackageVersion: revG, Feb-2011; PackageReference: PW14; PackageDescription: 14-Pin Thin Small Outline Package 0.65 mm Pitch; Supplier 1: Digi-Key; Supplier Part Number 1: TPS2411PWRG4-ND; Supplier 2: Newark; Supplier Part Number 2: 34M0150; Supplier 3: Mouser; Supplier Part Number 3: 595-TPS2411PWRG4; Eco-Plan: Green (RoHS & no Sb/Br); Fault and Status: Yes; Input Filter: Yes; Under/Over Voltage Reporting: Yes; Mounting Technology: Surface Mount; Code_JEDEC: MO-153; ComponentLink1Description: Datasheet; ComponentLink1URL: http://www.ti.com/general/docs/lit/getliterature.tsp?genericPartNumber=TPS2411&fileType=pdf
footprint PW14_N (TSOP, 14-Leads, Body 5x4.4mm, Pitch 0.65mm, IPC Medium Density)
footprint PW14_L (TSOP, 14-Leads, Body 5x4.4mm, Pitch 0.65mm, IPC High Density)
footprint PW14_M (TSOP, 14-Leads, Body 5x4.4mm, Pitch 0.65mm, IPC Low Density)
pins: 1 VDD (power) "Input power for the gate drive charge pump and internal controls. VDD must be connected to a supply voltage >= 3 V.", 2 RSET (in) "Connect a resistor to ground to program the turn-off threshold. Leaving RSET open results in a slightly positive V(A-C) turn-off threshold.", 3 STAT (io) "STAT is a multifunction pin. A high output indicates that the MOSFET gate is being driven high. Overdriving STAT low while GATE is high shifts the fast-turnoff threshold negative. STAT has a weak pull-up to VDD.", 4 FLTB (oc) "Open drain fault output. Fault is active (low) for any of the following conditions: 1. Insufficient VDD 2. GATE should be high but is not. 3. The MOSFET should be ON but the forward voltage exceeds 0.4 V.", 5 OV (in) "OV is a voltage monitor that contributes to the PG output, and also causes the MOSFET to turn off if it is above the 0.6-V threshold. OV is programmable via an external resistor divider. An OV voltage above 0.6 V indicates a (See Datasheet)", 6 UV (in) "UV is a voltage monitor that contributes to the PG output. The UV input has a 0.6 V threshold and is programmable via an external resistor divider. A UV voltage above 0.6V indicates a bus voltage that is above its minimum (See Datasheet)", 7 GND (power) "Device ground.", 8 GATE (out) "Connect to the gate of the external MOSFET. Controls the MOSFET to emulate a low forward-voltage diode.", 9 RSVD (power) "This pin must be connected to GND.", 10 C (in) "Voltage sense input that connects to the simulated diode cathode. Connect to the MOSFET drain in the typical configuration.", 11 A (in) "Voltage sense input that connects to the simulated diode anode. A also serves as the reference for the charge-pump bias supply on BYP. Connect to the MOSFET source in the typical configuration.", 12 FLTR "A capacitor connected from FLTR to A filters the input to the fast comparator. Filtering allows the TPS2410 to FLTR 12 I ignore spurious transients on the A and C inputs. This pin may be left open to achieve the fastest (See Datasheet)", 13 BYP (power) "Connect a storage capacitor from BYP to A to filter the gate drive supply voltage.", 14 PG (oc) "An open-drain Power Good indicator. PG is open if the UV input is above its threshold, the OV is below its threshold, and the internal UVLO is satisfied."

## TPS2412D
designator U?
N+1 and OR-ing Power Rail Controller, 0.8 to 16.5 V, -40 to 85 degC, 8-pin SOIC (D), Green (RoHS & no Sb/Br); Manufacturer: Texas Instruments; PartNumber: TPS2412D; Gate Control: linear; No. of Outputs: 1; Vin(Max)(V): 16.5; Vin(Min)(V): 0.8; DatasheetVersion: SLVS728B; PackageVersion: revM, Jun-2011; PackageReference: D8; PackageDescription: 8-Pin Plastic Small Outline Integrated Circuit, 4.9 x 3.9 mm, Pitch 1.27 mm Pitch; Supplier 1: Digi-Key; Supplier Part Number 1: 296-23785-5-ND; Supplier 2: Newark; Supplier Part Number 2: 25P9252; Supplier 3: Mouser; Supplier Part Number 3: 595-TPS2412D; Eco-Plan: Green (RoHS & no Sb/Br); Enable (OV): No; Fault and Status: No; Input Filter: No; Under/Over Voltage Reporting: No; Mounting Technology: Surface Mount; Code_JEDEC: MS-012AA; ComponentLink1Description: Datasheet; ComponentLink1URL: http://www.ti.com/general/docs/lit/getliterature.tsp?genericPartNumber=TPS2412&fileType=pdf
footprint D8_N (SOIC, 8-Leads, Body 4.9x3.9mm, Pitch 1.27mm, IPC Medium Density)
footprint D8_L (SOIC, 8-Leads, Body 4.9x3.9mm, Pitch 1.27mm, IPC High Density)
footprint D8_M (SOIC, 8-Leads, Body 4.9x3.9mm, Pitch 1.27mm, IPC Low Density)
pins: 1 VDD (power) "Input power for the gate drive charge pump and internal controls. VDD must be connected to a supply voltage >= 3 V.", 2 RSET (in) "Connect a resistor to ground to program the turn-off threshold. Leaving RSET open results in a slightly positive V(A-C) turn-off threshold.", 3 RSVD (power) "This pin must be connected to GND.", 4 GND (power) "Device ground.", 5 GATE (out) "Connect to the gate of the external MOSFET. Controls the MOSFET to emulate a low forward-voltage diode.", 6 C (in) "Voltage sense input that connects to the simulated diode cathode. Connect to the MOSFET drain in the typical configuration.", 7 A (in) "Voltage sense input that connects to the simulated diode anode. A also serves as the reference for the charge-pump bias supply on BYP. Connect to the MOSFET source in the typical configuration.", 8 BYP (power) "Connect a storage capacitor from BYP to A to filter the gate drive supply voltage."

## TPS2412DG4
designator U?
N+1 and OR-ing Power Rail Controller, 0.8 to 16.5 V, -40 to 85 degC, 8-pin SOIC (D), Green (RoHS & no Sb/Br); Manufacturer: Texas Instruments; PartNumber: TPS2412DG4; Gate Control: linear; No. of Outputs: 1; Vin(Max)(V): 16.5; Vin(Min)(V): 0.8; DatasheetVersion: SLVS728B; PackageVersion: revM, Jun-2011; PackageReference: D8; PackageDescription: 8-Pin Plastic Small Outline Integrated Circuit, 4.9 x 3.9 mm, Pitch 1.27 mm Pitch; Supplier 1: Digi-Key; Supplier Part Number 1: TPS2412DG4-ND; Supplier 2: Newark; Supplier Part Number 2: 34P6477; Supplier 3: Mouser; Supplier Part Number 3: 595-TPS2412DG4; Eco-Plan: Green (RoHS & no Sb/Br); Enable (OV): No; Fault and Status: No; Input Filter: No; Under/Over Voltage Reporting: No; Mounting Technology: Surface Mount; Code_JEDEC: MS-012AA; ComponentLink1Description: Datasheet; ComponentLink1URL: http://www.ti.com/general/docs/lit/getliterature.tsp?genericPartNumber=TPS2412&fileType=pdf
footprint D8_N (SOIC, 8-Leads, Body 4.9x3.9mm, Pitch 1.27mm, IPC Medium Density)
footprint D8_L (SOIC, 8-Leads, Body 4.9x3.9mm, Pitch 1.27mm, IPC High Density)
footprint D8_M (SOIC, 8-Leads, Body 4.9x3.9mm, Pitch 1.27mm, IPC Low Density)
pins: 1 VDD (power) "Input power for the gate drive charge pump and internal controls. VDD must be connected to a supply voltage >= 3 V.", 2 RSET (in) "Connect a resistor to ground to program the turn-off threshold. Leaving RSET open results in a slightly positive V(A-C) turn-off threshold.", 3 RSVD (power) "This pin must be connected to GND.", 4 GND (power) "Device ground.", 5 GATE (out) "Connect to the gate of the external MOSFET. Controls the MOSFET to emulate a low forward-voltage diode.", 6 C (in) "Voltage sense input that connects to the simulated diode cathode. Connect to the MOSFET drain in the typical configuration.", 7 A (in) "Voltage sense input that connects to the simulated diode anode. A also serves as the reference for the charge-pump bias supply on BYP. Connect to the MOSFET source in the typical configuration.", 8 BYP (power) "Connect a storage capacitor from BYP to A to filter the gate drive supply voltage."